# EAGLE library part TB6552 (library modular_robotics)
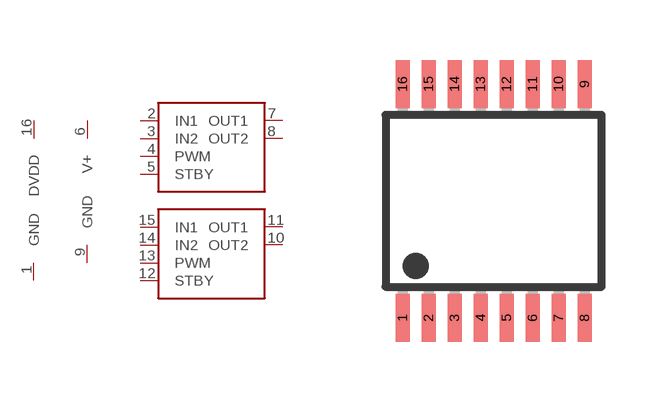
[diagram p15: symbol with the pads of TSSOP16; footprint TSSOP16]

Designator prefix -; gates PWR=PWR+G DPWR=DVDD-GND A=H_BRIDGE B=H_BRIDGE

## TB6552  [TSSOP16]
1  DPWR:GND
2  A:IN1
3  A:IN2
4  A:PWM
5  A:STBY
6  PWR:V+  pwr
7  A:OUT1
8  A:OUT2
9  PWR:GND  pwr
10  B:OUT2
11  B:OUT1
12  B:STBY
13  B:PWM
14  B:IN2
15  B:IN1
16  DPWR:DVDD

## Footprint TSSOP16 (pad centres in mm)
PW (R-PDSO-G8) Source: http://focus.ti.com/lit/ds/symlink/ads1271.pdf
smd 0.35 x 1.2: 1 -2.275,-2.925; 2 -1.625,-2.925; 3 -0.975,-2.925; 4 -0.325,-2.925; 5 0.325,-2.925; 6 0.975,-2.925; 7 1.625,-2.925; 8 2.275,-2.925; 9 2.275,2.925; 10 1.625,2.925; 11 0.975,2.925; 12 0.325,2.925; 13 -0.325,2.925; 14 -0.975,2.925; 15 -1.625,2.925; 16 -2.275,2.925